# Altium footprint library Test_Point.PcbLib: 1 footprints
Each footprint in its own frame and in the unit in brackets; x right, y up, seen from the top. Pads: shape width x height; smd on the part's side, far side on the other; paste and mask are expansions set on the pad; w line width, h text height; cw(c..) or ccw(c..) is an arc to the next point about the centre after c.
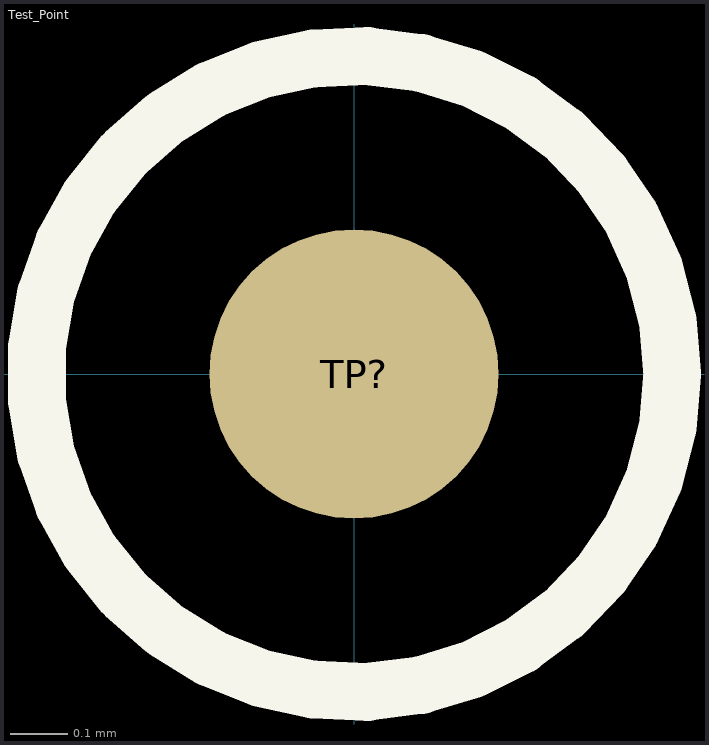
[diagram p0: the footprint, top view; thin cyan lines are the x and y axes]

## Test_Point [mm]
height 0.03
pads (1):
  round 0.5 smd paste-0.6: TP?(0,0)
Top Overlay:
  circle w0.1: c0,0 r0.55
3D body: height 0.03, standoff 0, extent -0.5,-0.5 0.5,0.5